# Altium integrated library RamanPrototype_v2.IntLib: 38 symbols
Pins are listed as number, name and electrical type; pins without a type are passive.

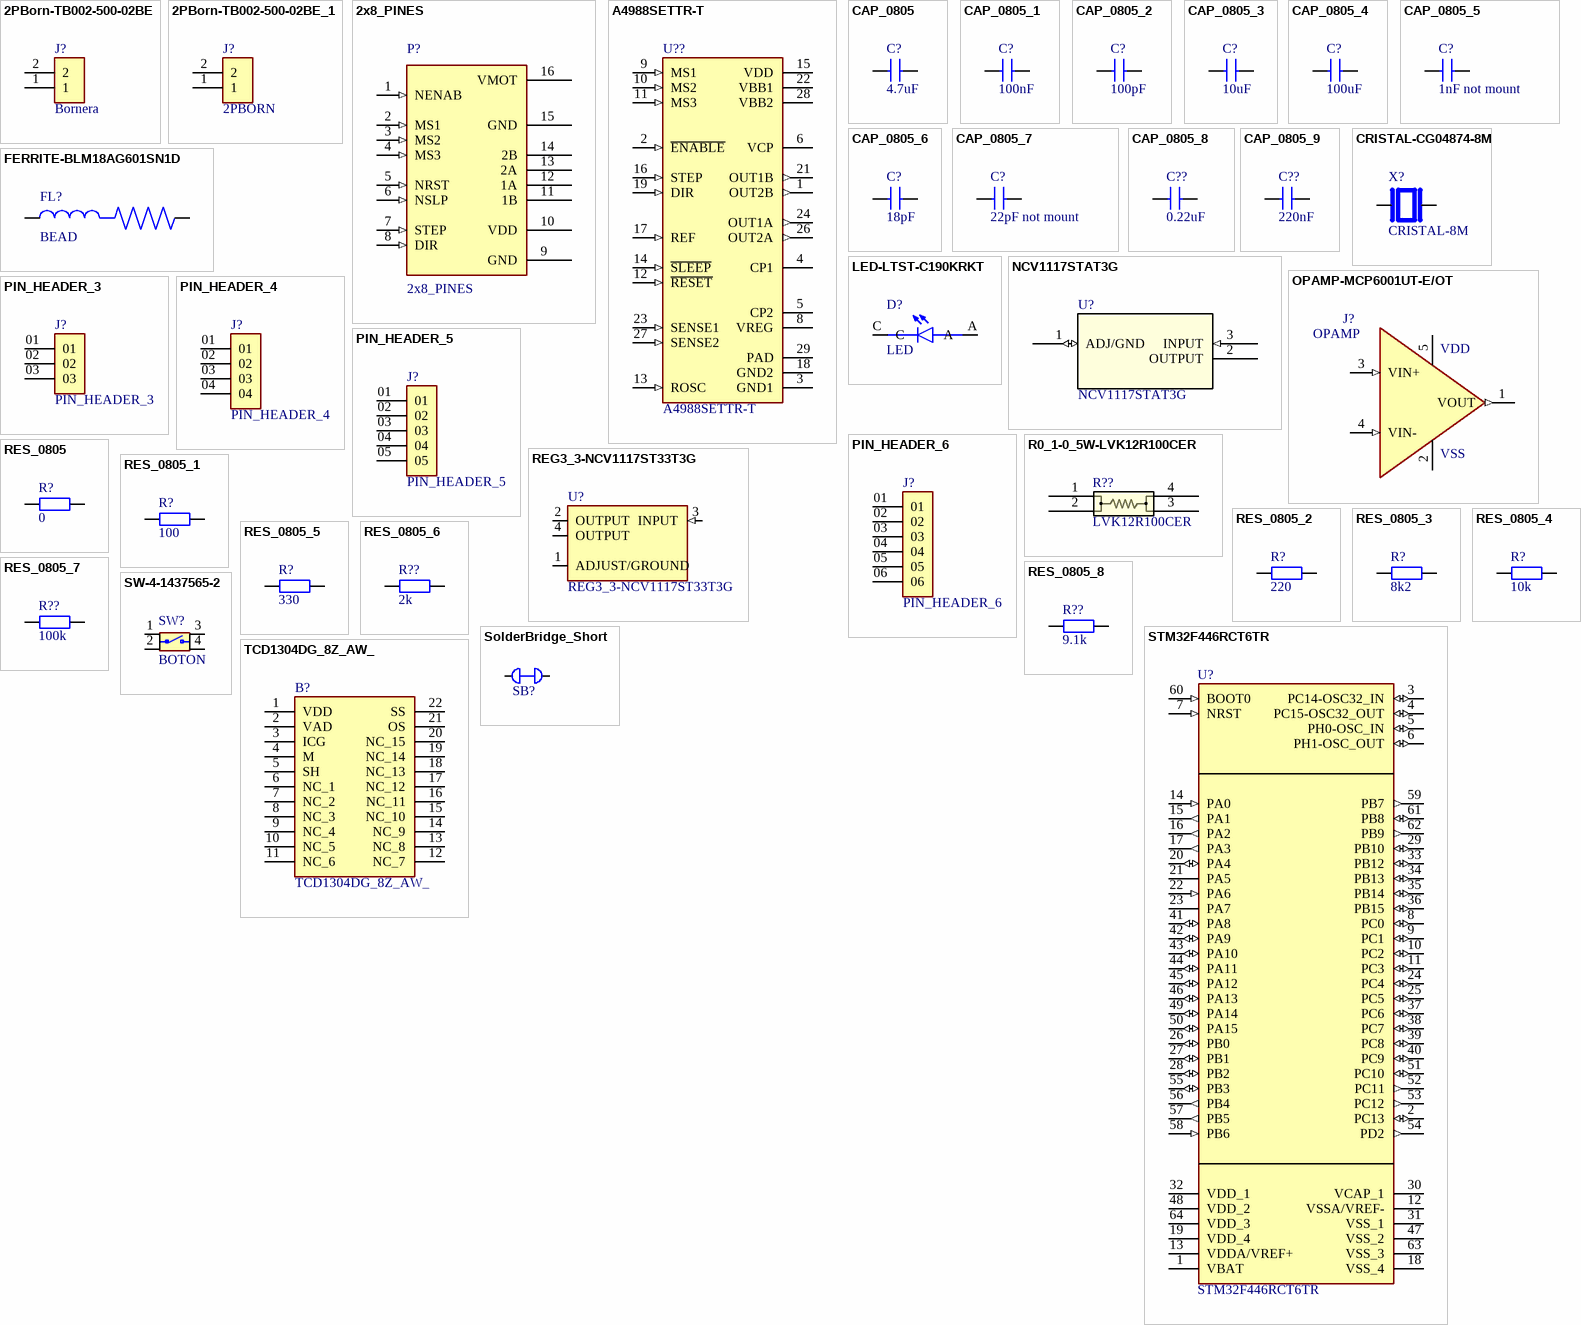
[diagram p0: symbols 2PBorn-TB002-500-02BE to TCD1304DG_8Z_AW_]

## 2PBorn-TB002-500-02BE
designator J?, comment Bornera
2~24 Poles, Screw Type, Horizontal, 5.0 Pitch, 22~12 (AWG), Terminal Block Connector; MF: Same Sky; MP: TB002-500-02BE; SnapEDA_Link: https://www.snapeda.com/parts/TB002-500-02BE/Same+Sky/view-part/?ref=snap; Package: None; Value: *; Check_prices: https://www.snapeda.com/parts/TB002-500-02BE/Same+Sky/view-part/?ref=eda
footprint CUI_TB002-500-02BE
pins: 1, 2

## 2PBorn-TB002-500-02BE_1
designator J?, comment 2PBORN
2~24 Poles, Screw Type, Horizontal, 5.0 Pitch, 22~12 (AWG), Terminal Block Connector; MF: Same Sky; MP: TB002-500-02BE; SnapEDA_Link: https://www.snapeda.com/parts/TB002-500-02BE/Same+Sky/view-part/?ref=snap; Package: None; Value: *; Check_prices: https://www.snapeda.com/parts/TB002-500-02BE/Same+Sky/view-part/?ref=eda
footprint CUI_TB002-500-02BE
pins: 1, 2

## 2x8_PINES
designator P?
footprint PINES8x2-sep
pins: 1 NENAB (in), 2 MS1 (in), 3 MS2 (in), 4 MS3 (in), 5 NRST (in), 6 NSLP (in), 7 STEP (in), 8 DIR (in), 9 GND, 10 VDD, 11 1B, 12 1A, 13 2A, 14 2B, 15 GND, 16 VMOT

## A4988SETTR-T
designator U??
DMOS Microstepping Driver with Translator And Overcurrent Protection; MF: Allegro; SnapEDA_Link: https://www.snapeda.com/parts/A4988SETTR-T/Allegro/view-part/?ref=snap; Package: QFN-28 Allegro MicroSystems LLC; Value: *; MP: A4988SETTR-T; Check_prices: https://www.snapeda.com/parts/A4988SETTR-T/Allegro/view-part/?ref=eda
footprint QFN50P500X500X90-29N
pins: 1 OUT2B (out), 2 ~{ENABLE} (in), 3 GND1, 4 CP1, 5 CP2, 6 VCP, 8 VREG, 9 MS1 (in), 10 MS2 (in), 11 MS3 (in), 12 ~{RESET} (in), 13 ROSC (in), 14 ~{SLEEP} (in), 15 VDD (power), 16 STEP (in), 17 REF (in), 18 GND2, 19 DIR (in), 21 OUT1B (out), 22 VBB1 (power), 23 SENSE1 (in), 24 OUT1A (out), 26 OUT2A (out), 27 SENSE2 (in), 28 VBB2 (power), 29 PAD

## CAP_0805
designator C?, comment 4.7uF
Generic Capacitor
footprint RES_0805 (Chip Resistor, 2-Leads, Body 2.00x1.25mm, IPC Medium Density)
pins: 1, 2

## CAP_0805_1
designator C?, comment 100nF
Generic Capacitor
footprint RES_0805 (Chip Resistor, 2-Leads, Body 2.00x1.25mm, IPC Medium Density)
pins: 1, 2

## CAP_0805_2
designator C?, comment 100pF
Generic Capacitor
footprint RES_0805 (Chip Resistor, 2-Leads, Body 2.00x1.25mm, IPC Medium Density)
pins: 1, 2

## CAP_0805_3
designator C?, comment 10uF
Generic Capacitor
footprint RES_0805 (Chip Resistor, 2-Leads, Body 2.00x1.25mm, IPC Medium Density)
pins: 1, 2

## CAP_0805_4
designator C?, comment 100uF
Generic Capacitor
footprint RES_0805 (Chip Resistor, 2-Leads, Body 2.00x1.25mm, IPC Medium Density)
pins: 1, 2

## CAP_0805_5
designator C?, comment 1nF not mount
Generic Capacitor
footprint RES_0805 (Chip Resistor, 2-Leads, Body 2.00x1.25mm, IPC Medium Density)
pins: 1, 2

## CAP_0805_6
designator C?, comment 18pF
Generic Capacitor
footprint RES_0805 (Chip Resistor, 2-Leads, Body 2.00x1.25mm, IPC Medium Density)
pins: 1, 2

## CAP_0805_7
designator C?, comment 22pF not mount
Generic Capacitor
footprint RES_0805 (Chip Resistor, 2-Leads, Body 2.00x1.25mm, IPC Medium Density)
pins: 1, 2

## CAP_0805_8
designator C??, comment 0.22uF
Generic Capacitor
footprint RES_0805 (Chip Resistor, 2-Leads, Body 2.00x1.25mm, IPC Medium Density)
pins: 1, 2

## CAP_0805_9
designator C??, comment 220nF
Generic Capacitor
footprint RES_0805 (Chip Resistor, 2-Leads, Body 2.00x1.25mm, IPC Medium Density)
pins: 1, 2

## CRISTAL-CG04874-8M
designator X?, comment CRISTAL-8M
8 MHz ±20ppm Crystal 8pF 500 Ohms 2-SMD, No Lead; MF: NDK America, Inc.; MP: CG04874-8M; SnapEDA_Link: https://www.snapeda.com/parts/CG04874-8M/NDK+America%252C+Inc./view-part/?ref=snap; Package: SMD-2 NDK America,; Value: *; Check_prices: https://www.snapeda.com/parts/CG04874-8M/NDK+America%252C+Inc./view-part/?ref=eda
footprint XTALDFN320X250X100-2N
pins: 1, 2

## FERRITE-BLM18AG601SN1D
designator FL?, comment BEAD
600 Ohms @ 100 MHz 1 - Ferrite Bead 0603 (1608 Metric) 500mA 380mOhm; MF: Murata; MP: BLM18AG601SN1D; Check_prices: https://www.snapeda.com/parts/BLM18AG601SN1D/Murata/view-part/?ref=eda; SnapEDA_Link: https://www.snapeda.com/parts/BLM18AG601SN1D/Murata/view-part/?ref=snap; Availability: In Stock; Value: *; Price: None; Package: 1608 Murata; Purchase-URL: https://pricing.snapeda.com/search/part/BLM18AG601SN1D/?ref=eda
footprint BEADC1608X95N
pins: 1, 2

## LED-LTST-C190KRKT
designator D?, comment LED
Red 631nm LED Indication - Discrete 2V 0603 (1608 Metric); MF: Lite-On Inc.; MP: LTST-C190KRKT; Check_prices: https://www.snapeda.com/parts/LTST-C190KRKT/Lite-On+Inc./view-part/?ref=eda; Value: *; Purchase-URL: https://pricing.snapeda.com/search/part/LTST-C190KRKT/?ref=eda; Price: None; SnapEDA_Link: https://www.snapeda.com/parts/LTST-C190KRKT/Lite-On+Inc./view-part/?ref=snap; Availability: In Stock; Package: 0603 Lite-On
footprint LEDC1608X35N
pins: A, C

## NCV1117STAT3G
designator U?
Description; Manufacturer_Name: onsemi; Copyright: Copyright (C) 2025 Ultra Librarian. All rights reserved.; Manufacturer_Part_Number: NCV1117STAT3G; RefDes: RefDes; Type: Type
footprint SOT223-3_ONS-M
pins: 1 ADJ/GND (io), 2 OUTPUT, 3 INPUT (in)

## OPAMP-MCP6001UT-E/OT
designator J?, comment OPAMP
Microchip MCP6001UT-E/OT Op Amp, 1MHz Rail-Rail, 1.8 - 6 V, 5-Pin SOT-23 | Microchip Technology Inc. MCP6001UT-E/OT; SnapEDA_Link: https://www.snapeda.com/parts/MCP6001UT-E/OT/Microchip/view-part/?ref=snap; Package: SOT-23 Microchip; Value: *; MF: Microchip; MP: MCP6001UT-E/OT; Check_prices: https://www.snapeda.com/parts/MCP6001UT-E/OT/Microchip/view-part/?ref=eda
footprint SOT95P280X145-5N
pins: 1 VOUT (out), 2 VSS (power), 3 VIN+ (in), 4 VIN- (in), 5 VDD (power)

## PIN_HEADER_3
designator J?
Generic 40 mils drill size, 100 mils step; MF: Samtec Inc.; MP: TS-103-T-A; SnapEDA_Link: https://www.snapeda.com/parts/TS-103-T-A/Samtec+Inc./view-part/?ref=snap; Package: None; Value: *; Check_prices: https://www.snapeda.com/parts/TS-103-T-A/Samtec+Inc./view-part/?ref=eda
footprint GEN_PIN3 (Generic 40 mils drill size, 100 mils step)
pins: 01, 02, 03

## PIN_HEADER_4
designator J?
Generic 40 mils drill size, 100 mils step; MF: Samtec Inc.; MP: TS-104-T-A; Check_prices: https://www.snapeda.com/parts/TS-104-T-A/Samtec+Inc./view-part/?ref=eda; Value: *; Availability: In Stock; Price: None; Package: None; SnapEDA_Link: https://www.snapeda.com/parts/TS-104-T-A/Samtec+Inc./view-part/?ref=snap; Purchase-URL: https://pricing.snapeda.com/search/part/TS-104-T-A/?ref=eda
footprint GEN_PIN4 (Generic 40 mils drill size, 100 mils step)
pins: 01, 02, 03, 04

## PIN_HEADER_5
designator J?
Generic 40 mils drill size, 100 mils step; MF: Samtec Inc.; MP: TS-105-T-A; Package: None; Check_prices: https://www.snapeda.com/parts/TS-105-T-A/Samtec+Inc./view-part/?ref=eda; Availability: In Stock; Value: *; Purchase-URL: https://pricing.snapeda.com/search/part/TS-105-T-A/?ref=eda; Price: None; SnapEDA_Link: https://www.snapeda.com/parts/TS-105-T-A/Samtec+Inc./view-part/?ref=snap
footprint GEN_PIN5 (Generic 40 mils drill size, 100 mils step)
pins: 01, 02, 03, 04, 05

## PIN_HEADER_6
designator J?
Generic 40 mils drill size, 100 mils step; MF: Samtec Inc.; MP: TS-106-T-A; SnapEDA_Link: https://www.snapeda.com/parts/TS-106-T-A/Samtec+Inc./view-part/?ref=snap; Package: None; Value: *; Check_prices: https://www.snapeda.com/parts/TS-106-T-A/Samtec+Inc./view-part/?ref=eda
footprint GEN_PIN6 (Generic 40 mils drill size, 100 mils step)
pins: 01, 02, 03, 04, 05, 06

## R0_1-0_5W-LVK12R100CER
designator R??, comment LVK12R100CER
Description; Manufacturer_Name: Ohmite; Copyright: Copyright (C) 2025 Ultra Librarian. All rights reserved.; Manufacturer_Part_Number: LVK12R100CER; RefDes: RefDes; Type: Type
footprint LVK12_OHM-m
pins: 1, 2, 3, 4

## REG3_3-NCV1117ST33T3G
designator U?
Linear Voltage Regulator IC Positive Fixed 1 Output 1A SOT-223; MF: ON Semiconductor; SnapEDA_Link: https://www.snapeda.com/parts/NCV1117ST33T3G/Onsemi/view-part/?ref=snap; Package: SOT-223-4 ON Semiconductor; Value: *; MP: NCV1117ST33T3G; Check_prices: https://www.snapeda.com/parts/NCV1117ST33T3G/Onsemi/view-part/?ref=eda
footprint SOT230P700X180-4N
pins: 1 ADJUST/GROUND (power), 2 OUTPUT, 3 INPUT (in), 4 OUTPUT

## RES_0805
designator R?, comment 0
Generic Capacitor
footprint RES_0805 (Chip Resistor, 2-Leads, Body 2.00x1.25mm, IPC Medium Density)
pins: 1, 2

## RES_0805_1
designator R?, comment 100
Generic Capacitor
footprint RES_0805 (Chip Resistor, 2-Leads, Body 2.00x1.25mm, IPC Medium Density)
pins: 1, 2

## RES_0805_2
designator R?, comment 220
Generic Capacitor
footprint RES_0805 (Chip Resistor, 2-Leads, Body 2.00x1.25mm, IPC Medium Density)
pins: 1, 2

## RES_0805_3
designator R?, comment 8k2
Generic Capacitor
footprint RES_0805 (Chip Resistor, 2-Leads, Body 2.00x1.25mm, IPC Medium Density)
pins: 1, 2

## RES_0805_4
designator R?, comment 10k
Generic Capacitor
footprint RES_0805 (Chip Resistor, 2-Leads, Body 2.00x1.25mm, IPC Medium Density)
pins: 1, 2

## RES_0805_5
designator R?, comment 330
Generic Capacitor
footprint RES_0805 (Chip Resistor, 2-Leads, Body 2.00x1.25mm, IPC Medium Density)
pins: 1, 2

## RES_0805_6
designator R??, comment 2k
Generic Capacitor
footprint RES_0805 (Chip Resistor, 2-Leads, Body 2.00x1.25mm, IPC Medium Density)
pins: 1, 2

## RES_0805_7
designator R??, comment 100k
Generic Capacitor
footprint RES_0805 (Chip Resistor, 2-Leads, Body 2.00x1.25mm, IPC Medium Density)
pins: 1, 2

## RES_0805_8
designator R??, comment 9.1k
Generic Capacitor
footprint RES_0805 (Chip Resistor, 2-Leads, Body 2.00x1.25mm, IPC Medium Density)
pins: 1, 2

## SolderBridge_Short
designator SB?  (value not drawn)
footprint SolderBridge_Short
pins: 1, 2

## STM32F446RCT6TR
designator U?
ARM® Cortex®-M4 STM32F4 Microcontroller IC 32-Bit Single-Core 180MHz 256KB (256K x 8) FLASH 64-LQFP (10x10); MF: STMicroelectronics; SnapEDA_Link: https://www.snapeda.com/parts/STM32F446RCT6TR/STMicroelectronics/view-part/?ref=snap; Package: LQFP-64 STMicroelectronics; Value: *; MP: STM32F446RCT6TR; Check_prices: https://www.snapeda.com/parts/STM32F446RCT6TR/STMicroelectronics/view-part/?ref=eda
footprint QFP50P1200X1200X160-64N
pins: 1 VBAT (power), 2 PC13 (io), 3 PC14-OSC32_IN (io), 4 PC15-OSC32_OUT (io), 5 PH0-OSC_IN (io), 6 PH1-OSC_OUT (io), 7 NRST (in), 8 PC0 (io), 9 PC1 (io), 10 PC2 (io), 11 PC3 (io), 12 VSSA/VREF-, 13 VDDA/VREF+ (power), 14 PA0 (in), 15 PA1 (out), 16 PA2 (out), 17 PA3 (out), 18 VSS_4 (power), 19 VDD_4 (power), 20 PA4 (io), 21 PA5, 22 PA6 (in), 23 PA7, 24 PC4 (io), 25 PC5 (io), 26 PB0 (io), 27 PB1 (io), 28 PB2 (io), 29 PB10 (io), 30 VCAP_1 (power), 31 VSS_1 (power), 32 VDD_1 (power), 33 PB12 (io), 34 PB13 (io), 35 PB14 (io), 36 PB15 (io), 37 PC6 (io), 38 PC7 (io), 39 PC8 (io), 40 PC9 (io), 41 PA8 (io), 42 PA9 (io), 43 PA10 (io), 44 PA11 (io), 45 PA12 (io), 46 PA13 (io), 47 VSS_2 (power), 48 VDD_2 (power), 49 PA14 (io), 50 PA15 (io), 51 PC10 (io), 52 PC11 (out), 53 PC12 (out), 54 PD2 (out), 55 PB3 (io), 56 PB4 (out), 57 PB5 (out), 58 PB6 (in), 59 PB7 (out), 60 BOOT0 (in), 61 PB8 (io), 62 PB9 (out), 63 VSS_3 (power), 64 VDD_3 (power)

## SW-4-1437565-2
designator SW?, comment BOTON
Switch Tactile OFF (ON) SPST Round Button Gull Wing 0.05A 24VDC 1VA 9.18N SMD T/R; MF: TE Connectivity; MP: FSM4JSMATR; SnapEDA_Link: https://www.snapeda.com/parts/FSM4JSMATR/TE+Connectivity+ALCOSWITCH+Switches/view-part/?ref=snap; Package: None; Value: *; Check_prices: https://www.snapeda.com/parts/FSM4JSMATR/TE+Connectivity+ALCOSWITCH+Switches/view-part/?ref=eda
footprint SW_4-1437565-2
pins: 1, 2, 3, 4

## TCD1304DG_8Z_AW_
designator B?
Image Sensors & Color Sensors CCD Linear Sensor 3648 8x20 54mm; Manufacturer_Name: Toshiba; Manufacturer_Part_Number: TCD1304DG(8Z,AW); Geometry.Height: 3.72mm; Mouser Part Number: 757-TCD1304DG8ZAW; Mouser Price/Stock: https://www.mouser.co.uk/ProductDetail/Toshiba/TCD1304DG8ZAW?qs=OLJpxlzHOSRVMcyirxbASw%3D%3D; Datasheet Link: https://datasheet.datasheetarchive.com/originals/distributors/DKDS-29/569259.pdf
footprint SOCKET-15_SMD-HARWIN_M20-7861546
pins: 1 VDD (power), 2 VAD (power), 3 ICG, 4 M, 5 SH, 6 NC_1, 7 NC_2, 8 NC_3, 9 NC_4, 10 NC_5, 11 NC_6, 12 NC_7, 13 NC_8, 14 NC_9, 15 NC_10, 16 NC_11, 17 NC_12, 18 NC_13, 19 NC_14, 20 NC_15, 21 OS, 22 SS